# Altium footprint library QFN56-socket.PcbLib: 1 footprints
Each footprint in its own frame and in the unit in brackets; x right, y up, seen from the top. Pads: shape width x height; smd on the part's side, far side on the other; paste and mask are expansions set on the pad; w line width, h text height; cw(c..) or ccw(c..) is an arc to the next point about the centre after c.
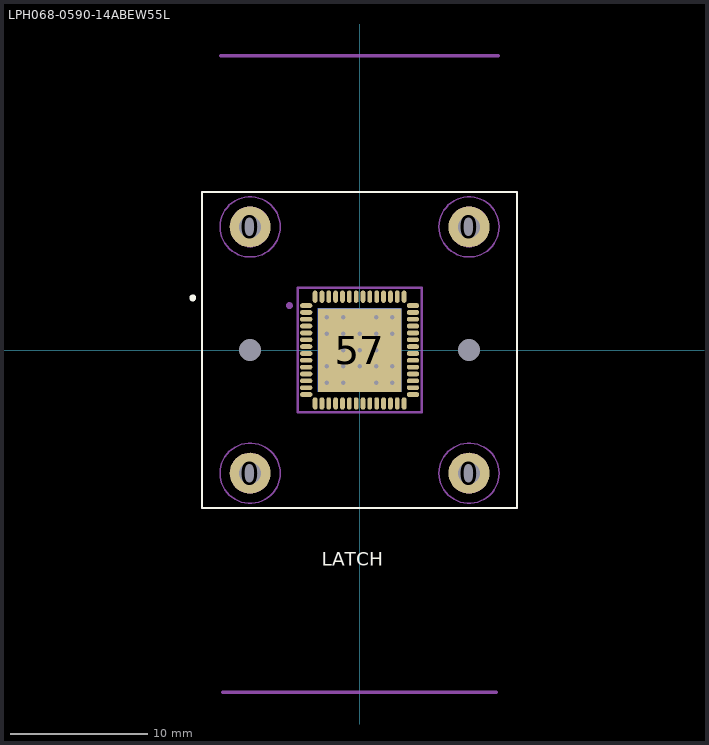
[diagram p0: the footprint, top view; thin cyan lines are the x and y axes]

## LPH068-0590-14ABEW55L [mm] "QFN-56 Testsocket E-tec CSP QFN56_0.5"
pads (64):
  round 3 hole 1.59 unplated: 0(-8,-9) 0(-8,9) 0(8,-9) 0(8,9)
  round 0 hole 1.62 unplated: 0(-8,0) 0(8,0)
  oval 0.9x0.35 smd: 1(-3.9,3.25) 2(-3.9,2.75) 3(-3.9,2.25) 4(-3.9,1.75) 5(-3.9,1.25) 6(-3.9,0.75) 7(-3.9,0.25) 8(-3.9,-0.25) 9(-3.9,-0.75) 10(-3.9,-1.25) 11(-3.9,-1.75) 12(-3.9,-2.25) 13(-3.9,-2.75) 14(-3.9,-3.25) 29(3.9,-3.25) 30(3.9,-2.75) 31(3.9,-2.25) 32(3.9,-1.75) 33(3.9,-1.25) 34(3.9,-0.75) 35(3.9,-0.25) 36(3.9,0.25) 37(3.9,0.75) 38(3.9,1.25) 39(3.9,1.75) 40(3.9,2.25) 41(3.9,2.75) 42(3.9,3.25)
  oval 0.35x0.9 smd: 15(-3.25,-3.9) 16(-2.75,-3.9) 17(-2.25,-3.9) 18(-1.75,-3.9) 19(-1.25,-3.9) 20(-0.75,-3.9) 21(-0.25,-3.9) 22(0.25,-3.9) 23(0.75,-3.9) 24(1.25,-3.9) 25(1.75,-3.9) 26(2.25,-3.9) 27(2.75,-3.9) 28(3.25,-3.9) 43(3.25,3.9) 44(2.75,3.9) 45(2.25,3.9) 46(1.75,3.9) 47(1.25,3.9) 48(0.75,3.9) 49(0.25,3.9) 50(-0.25,3.9) 51(-0.75,3.9) 52(-1.25,3.9) 53(-1.75,3.9) 54(-2.25,3.9) 55(-2.75,3.9) 56(-3.25,3.9)
  rect 6.1x6.1 smd: 57(0,0)
  rect 6.1x6.1 smd far side: 57(0,0)
via -1.2,0 diameter 0.66 hole 0.33
via 1.2,0 diameter 0.66 hole 0.33
via 0,1.2 diameter 0.66 hole 0.33
via 0,-1.2 diameter 0.66 hole 0.33
via 0,0 diameter 0.66 hole 0.33
via 2.4,-2.4 diameter 0.66 hole 0.33
via 1.2,-2.4 diameter 0.66 hole 0.33
via -1.2,-2.4 diameter 0.66 hole 0.33
via -2.4,-2.4 diameter 0.66 hole 0.33
via 2.4,-1.2 diameter 0.66 hole 0.33
via 1.2,-1.2 diameter 0.66 hole 0.33
via -1.2,-1.2 diameter 0.66 hole 0.33
via -2.4,-1.2 diameter 0.66 hole 0.33
via 2.4,1.2 diameter 0.66 hole 0.33
via 1.2,1.2 diameter 0.66 hole 0.33
via -1.2,1.2 diameter 0.66 hole 0.33
via -2.4,1.2 diameter 0.66 hole 0.33
via 2.4,2.4 diameter 0.66 hole 0.33
via 1.2,2.4 diameter 0.66 hole 0.33
via -1.2,2.4 diameter 0.66 hole 0.33
via -2.4,2.4 diameter 0.66 hole 0.33
Top Overlay:
  circle w0.25: c-12.192,3.81 r0.125
  lines w0.15: -11.5,-11.557 11.5,-11.557 11.5,11.557 -11.5,11.557 -11.5,-11.557
  text "LATCH" at -2.75,-15.75 h1
Bottom Overlay:
  circle w0.2: c-8,-9 r2.5
  circle w0.2: c8,-9 r2.5
  circle w0.2: c8,9 r2.5
  circle w0.2: c-8,9 r2.5
Top Solder:
  region: -11.5,11.557 11.5,11.557 11.5,-11.557 -11.5,-11.557
Mechanical 1:
  lines w0.1: -4.572,-4.572 -4.572,4.572 4.572,4.572 4.572,-4.572 -4.572,-4.572
  text "over 150uIN Ni" at -4.826,-6.604 h0.75
  text "Plating 50uIN  Au" at -6.096,-5.588 h0.75
Mechanical 12:
  circle w0.25: c-5.125,3.25 r0.125
  lines w0.1: -4.5,-4.5 -4.5,4.5 4.5,4.5 4.5,-4.5 -4.5,-4.5
  lines w0.15: -11.5,-11.557 -11.5,11.557 11.5,11.557 11.5,-11.557 -11.5,-11.557
  text ".Designator" at -3.75,7.75 h0.75
  text ".Comment" at -2.75,6 h0.75
  text "LATCH" at -2.75,-15.75 h1
Mechanical 15:
  circle w0.05: c-8,-9 r1.45
  circle w0.1: c-8,-9 r2.2
  circle w0.05: c8,-9 r1.45
  circle w0.1: c8,-9 r2.2
  circle w0.05: c8,9 r1.45
  circle w0.1: c8,9 r2.2
  circle w0.05: c-8,9 r1.45
  circle w0.1: c-8,9 r2.2
  lines w0.1: -0.5,0 0.5,0 ; 0,-0.5 0,0.5
  lines w0.15: -11.5,-11.557 -11.5,11.557 11.5,11.557 11.5,-11.557 -11.5,-11.557
  lines w0.254: -10.16,21.5 10.123,21.5 ; -10,-25 10,-25
  text "HINGE OVER HANG AREA" at -9.779,17.526 h1
  text "LATCH AREA" at -7.239,-18.161 h1.52
Drill Drawing:
  text "+0.030" at -9.65,-3.294 h0.75
  text "-0.000" at -9.65,-4.31 h0.75
  text "1.620" at -8.75,-2.25 h0.75
  text "1.620" at 6.5,-2.25 h0.75
  text "-0.000" at 5.588,-4.31 h0.75
  text "+0.030" at 5.588,-3.294 h0.75
3D body "LPH068-0590-14ABEW55L.STEP": height 26.46, standoff -3.2, extent -11.5,-18 11.5,18